# EAGLE library part TSL256 (library isystems)
AMS/TAOS TSL2560/TSL2561 I2C Light Sensor Approximates Human Eye Response Dual Diode (Visible & IR Light) Programmable Analog Gain and Integration Time 600M:1 Dynamic Range Two Internal Interrupt Sources Programmable Upper and Lower Thresholds One Interrupt Includes Programmable Persistence Filter Data Rates up to 400 kbit/s Input Voltage Levels Compatible with 3.0V Bus The TSL2560/TSL2561 is a very-high sensitivity light-to-digital converter that transforms light intensity into a digital signal output capable of direct I2C interface. The device combines one broadband photodiode (visible plus infrared) and one infrared-responding photodiode on a single CMOS integrated circuit. Two integrating ADCs convert the photodiode currents into a digital output that represents the irradiance measured on each channel. This digital output can be input to a microprocessor where illuminance (ambient light level) in lux is derived using an empirical formula to approximate the human eye response. The TSL2591 supports a traditional level style interrupt that remains asserted until the firmware clears it. http://ams.com/eng/Products/Light-Sensors/Light-to-Digital-Sensors/TSL2561
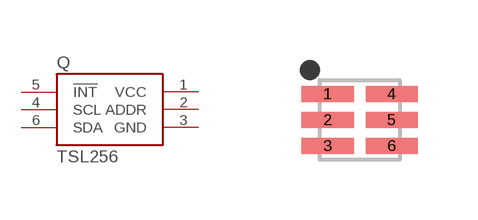
[diagram p16: symbol with the pads of FN-6; footprint FN-6]

Designator prefix Q

## TSL2560FN (INTERFACE: SMBus), TSL2561FN (INTERFACE: I2C)  [FN-6]
1  VCC  pwr
2  ADDR  in
3  GND  pwr
4  SCL  in
5  !INT  out
6  SDA

## Footprint FN-6 (pad centres in mm)
smd 1.3 x 0.4: 1 -0.8,0.65; 2 -0.8,0; 3 -0.8,-0.65; 4 0.8,0.65; 5 0.8,0; 6 0.8,-0.65